# Altium schematic symbol library FSA2257MUX.SchLib: 1 symbol
Pins are listed as number, name and electrical type; pins without a type are passive.

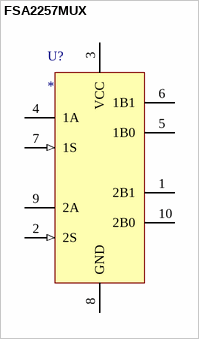
[diagram p0: symbol FSA2257MUX]

## FSA2257MUX
designator U?
Dual SPDT Analog Switch
pins: 1 2B1, 2 2S (in), 3 VCC (power), 4 1A, 5 1B0, 6 1B1, 7 1S (in), 8 GND (power), 9 2A, 10 2B0